# EAGLE library part VNS3NV04DP-E (library BrownSpaceEngineering)
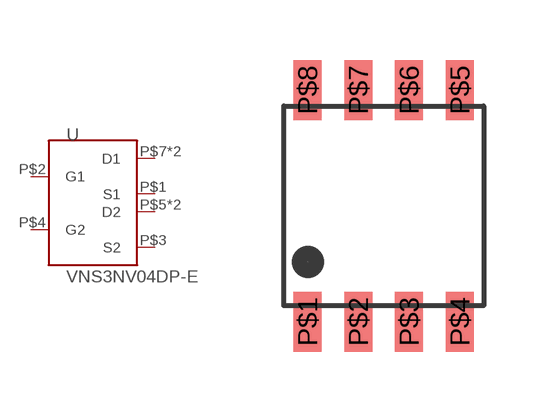
[diagram p6: symbol with the pads of SO-8; footprint SO-8]

Designator prefix U

## VNS3NV04DP-E  [SO-8]
P$1  S1
P$2  G1
P$3  S2
P$4  G2
P$5  D2
P$6  D2
P$7  D1
P$8  D1

## Footprint SO-8 (pad centres in mm)
smd 0.7 x 1.5: P$1 -1.905,-2.9; P$2 -0.635,-2.9; P$3 0.635,-2.9; P$4 1.905,-2.9; P$5 1.905,2.9; P$6 0.635,2.9; P$7 -0.635,2.9; P$8 -1.905,2.9